# Altium footprint library 10118193-0001LF.PcbLib: 1 footprints
Each footprint in its own frame and in the unit in brackets; x right, y up, seen from the top. Pads: shape width x height; smd on the part's side, far side on the other; paste and mask are expansions set on the pad; w line width, h text height; cw(c..) or ccw(c..) is an arc to the next point about the centre after c.
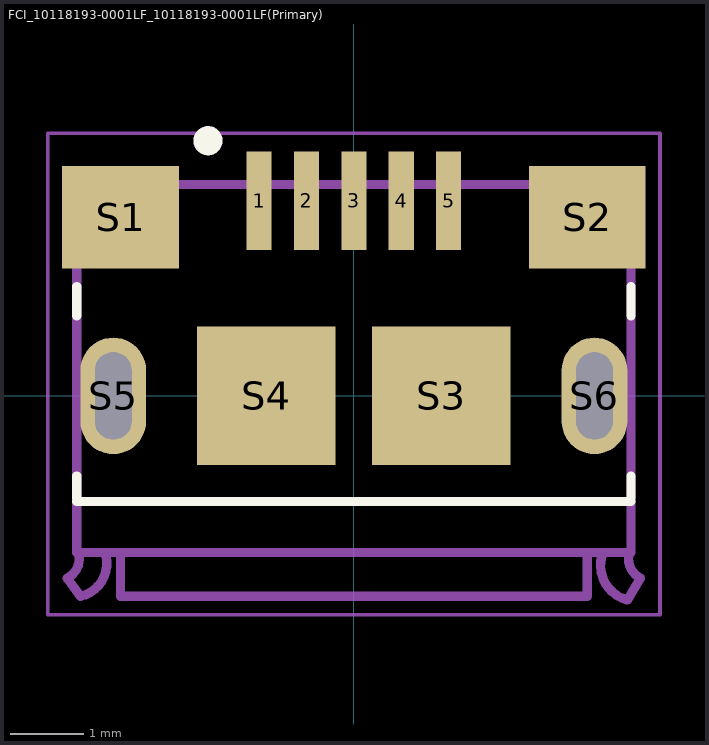
[diagram p0: the footprint, top view; thin cyan lines are the x and y axes]

## FCI_10118193-0001LF_10118193-0001LF(Primary) [mm]
pads (11):
  rect 0.344x1.35 smd mask+0.076: 1(-1.3,2.675) 2(-0.65,2.675) 3(0,2.675) 4(0.65,2.675) 5(1.3,2.675)
  rect 1.6x1.4 smd: S1(-3.2,2.45) S2(3.2,2.45)
  rect 1.9x1.9 smd: S3(1.2,0) S4(-1.2,0)
  oval 0.9x1.6 hole 0.5 slot 1.2 at 90 deg: S5(-3.3,0) S6(3.3,0)
Top Overlay:
  circle w0.2: c-2,3.5 r0.1
  lines w0.127: -3.8,-1.45 3.8,-1.45 ; -3.8,-1.4 -3.8,-1.1 ; -3.8,1.1 -3.8,1.5 ; 3.8,-1.4 3.8,-1.1 ; 3.8,1.1 3.8,1.5
Mechanical 1:
  lines w0: -3.55,-0.35 ccw(c-3.3,-0.35) -3.3,-0.6 ccw(c-3.3,-0.35) -3.05,-0.35 -3.05,0.35 ccw(c-3.3,0.35) -3.3,0.6 ccw(c-3.3,0.35) -3.55,0.35 -3.55,-0.35 ; 3.05,-0.35 ccw(c3.3,-0.35) 3.3,-0.6 ccw(c3.3,-0.35) 3.55,-0.35 3.55,0.35 ccw(c3.3,0.35) 3.3,0.6 ccw(c3.3,0.35) 3.05,0.35 3.05,-0.35
Mechanical 4:
  lines w0.127: -3.8,-2.15 -3.8,-2.1 ; -3.8,-2.15 3.8,-2.15 ; -3.8,-2.15 -3.8,-2.1 ; -3.8,-2.15 3.8,-2.15 ; -3.8,-2.1 cw(c-4.065,-2.235) -3.93,-2.5 ccw(c-4.065,-2.235) -3.8,-2.1 ; -3.8,-2.1 -3.8,2.9 ; -3.8,-2.1 -3.8,2.9 ; -3.8,2.9 3.8,2.9 ; -3.8,2.9 3.8,2.9 ; -3.2,-2.75 3.2,-2.75 ; -3.2,-2.75 -3.2,-2.2 -3.2,-2.75 ; -3.2,-2.75 3.2,-2.75 ; 3.2,-2.75 3.2,-2.2 3.2,-2.75 ; 3.8,-2.15 3.8,-1.45 ; 3.8,-2.15 3.8,-1.45 ; 3.8,-1.45 3.8,2.9 ; 3.8,-1.45 3.8,2.9 ; -3.93,-2.5 -3.75,-2.75 -3.93,-2.5 ; -3.746,-2.749 ccw(c-3.85,-2.3) -3.401,-2.196 cw(c-3.85,-2.3) -3.746,-2.749 ; 3.401,-2.198 ccw(c3.875,-2.325) 3.748,-2.799 cw(c3.875,-2.325) 3.401,-2.198 ; 3.75,-2.8 3.93,-2.5 3.75,-2.8 ; 3.8,-2.1 ccw(c4.065,-2.235) 3.93,-2.5 cw(c4.065,-2.235) 3.8,-2.1
Mechanical 16:
  lines w0.05: -4.2,-3 4.2,-3 4.2,3.6 -4.2,3.6 -4.2,-3
3D body "10118193-0001lfc.stp": height 3.18, standoff -0.43, extent -3.953,-2.75 3.903,2.911